# Altium schematic symbol library 1725656.SchLib: 1 symbol
Pins are listed as number, name and electrical type; pins without a type are passive.

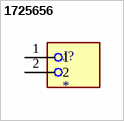
[diagram p0: symbol 1725656]

## 1725656
designator J?
PCB Terminal Screw 2.54mm 20AWG 160V 6A 2 Position COMBICON MPT Series | Phoenix Contact 1725656; SnapEDA_Link: https://www.snapeda.com/parts/1725656/Phoenix+Contact/view-part/?ref=snap; Package: None; Value: *; MF: Phoenix Contact; MP: 1725656; Check_prices: https://www.snapeda.com/parts/1725656/Phoenix+Contact/view-part/?ref=eda
footprint PHOENIX_1725656
pins: 1, 2